# EAGLE library part 691305540007 (library ds_con)
WR-TBL Serie 3055 - 5.08 mm - PCB Header Horizontal Entry with Plastic Latches KIND PROPERTIES Pitch 5.08 mm MATERIAL PROPERTIES Insulator Material PA66 Insulator Flammability Rating UL94 V-0 Insulator Color Green Terminal Material Copper Alloy Terminal Plating Tin-plated surface GENERAL INFORMATION Operating Temperature -40 up to +105 °C ELECTRICAL PROPERTIES IR UL 16 A Working Voltage [UL] 300 V (AC) Withstanding Voltage [UL] 2500 V (AC) Contact Resistance [UL] 20 mΩ CERTIFICATION UL Approval E315414 <https://www.we-online.com/catalog/media/o135351v209%20Family_WR-TBL3_6913055400xx.jpg> Details see: https://www.we-online.com/catalog/en/TBL_5_08_3055_6913055400XX/ Updated by Ella Wu 2019-12-30 2022(C) Wurth Elektronik
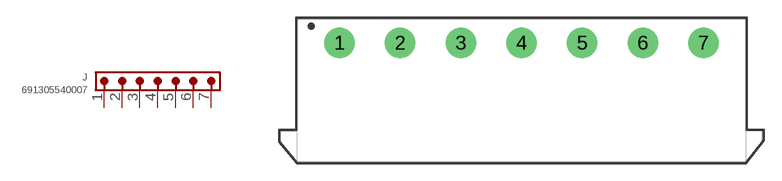
[diagram p26: symbol with the pads of 691305540007; footprint 691305540007]

Designator prefix J

## 691305540007 (DATASHEET: https://www.we-online.com/redexpert/spec/691305540007?ae; DESCRIPTION: 7 Position Terminal Block Header, Male Pins, Shrouded (4 Side) 0.200" (5.08mm) 90°, Right Angle Through Hole; MANUFACTURER: Würth Elektronik; MPN: 691305540007; ROHS: YES; VALUE: 691305540007)  [691305540007]
1  1  pas
2  2  pas
3  3  pas
4  4  pas
5  5  pas
6  6  pas
7  7  pas

## Footprint 691305540007 (pad centres in mm)
WR-TBL Serie 3055 - 5.08 mm - PCB Header Horizontal Entry with Plastic Latches Max Height = 8.6mm , Pitch 5.08mm , 7pins
drill 1.7: 1 -15.24,0; 2 -10.16,0; 3 -5.08,0; 4 0,0; 5 5.08,0; 6 10.16,0; 7 15.24,0